# Altium schematic symbol library 1608.SchLib: 1 symbol
Pins are listed as number, name and electrical type; pins without a type are passive.

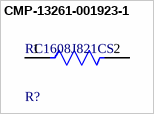
[diagram p0: symbol CMP-13261-001923-1]

## CMP-13261-001923-1
designator R?, comment RC1608J821CS
Res Thick Film 0603 820Ω 5% 0.1W ±100ppm/°C Molded SMD T/R; Power Rating: 100mW; Resistance: 820R; Voltage Rating (DC): 50V; Radiation Hardening: No; Packaging: Tape and Reel; Width: 0.031inch; Case/Package: 0603; Tolerance: 5%; Case Code (Metric): 1608; Features: Moisture Resistant; Number of Terminations: 2; Contact Plating: Tin; Height: 0.022inch; Length: 0.063inch; Max Operating Temperature: 155°C; Lead Free: Lead Free; Composition: Thick Film; Case Code (Imperial): 0603; Min Operating Temperature: -55°C; Max Power Dissipation: 100mW; Temperature Coefficient: 100ppm/°C
footprint FP-RC1608-IPC_B
footprint FP-RC1608-MFG
footprint FP-RC1608-IPC_C
footprint FP-RC1608-IPC_A
pins: 1, 2